# Altium footprint library PcbLib9.PcbLib: 1 footprints
Each footprint in its own frame and in the unit in brackets; x right, y up, seen from the top. Pads: shape width x height; smd on the part's side, far side on the other; paste and mask are expansions set on the pad; w line width, h text height; cw(c..) or ccw(c..) is an arc to the next point about the centre after c.
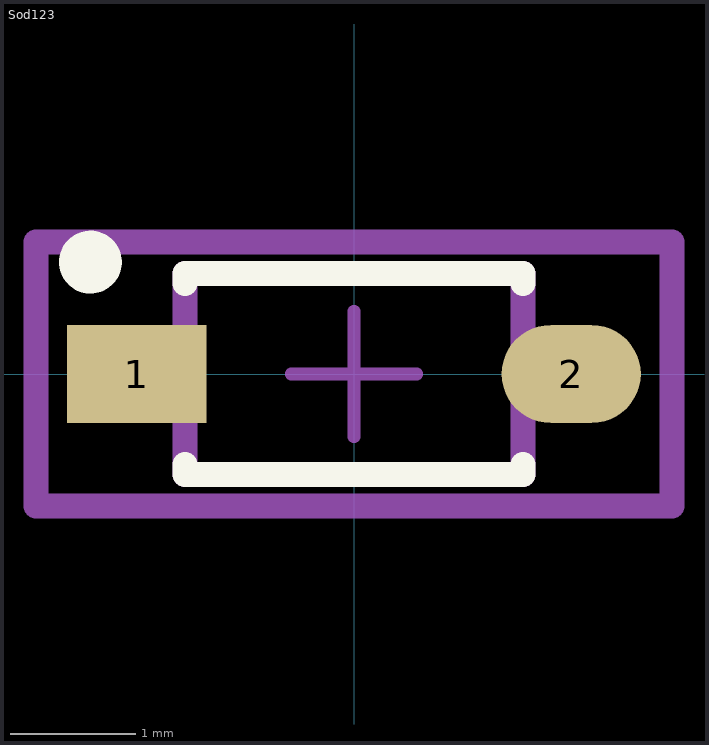
[diagram p0: the footprint, top view; thin cyan lines are the x and y axes]

## Sod123 [mm]
pads (2):
  rect 1.108x0.782 smd paste+0 mask+0: 1(-1.73,0)
  rrect100% 1.108x0.782 smd paste+0 mask+0: 2(1.73,0)
Top Overlay:
  circle w0.25: c-2.099,0.891 r0.125
  lines w0.2: -1.345,-0.72 -1.345,-0.8 1.345,-0.8 1.345,-0.72 ; -1.345,0.72 -1.345,0.8 1.345,0.8 1.345,0.72
Mechanical 10:
  lines w0.2: -2.534,-1.05 -2.534,1.05 2.534,1.05 2.534,-1.05 -2.534,-1.05
  text ".Designator" at 0,0.188 h1
Mechanical 12:
  lines w0.2: -1.345,-0.8 -1.345,0.8 1.345,0.8 1.345,-0.8 -1.345,-0.8
Mechanical 15:
  lines w0.1: -0.5,0 0.5,0 ; 0,-0.5 0,0.5
  lines w0.2: -2.534,-1.05 -2.534,1.05 2.534,1.05 2.534,-1.05 -2.534,-1.05
3D body "Diode_On_Semiconductor_MBR0520LT1G_eec.STEP": height 0.25, standoff 0, extent -2.534,-1.05 2.534,1.05